# Altium integrated library Semtech-SC4541.IntLib: 1 symbol
Pins are listed as number, name and electrical type; pins without a type are passive.

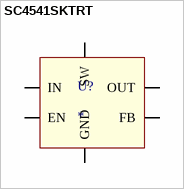
[diagram p0: symbol SC4541SKTRT]

## SC4541SKTRT
designator U?
IC LED DRIVER RGLTR DIM SOT23-6
footprint SOT23-6 (SOT23, 6-Leads, Body 2.95x2.80mm, Pitch 0.95mm, IPC High Density)
pins: 1 SW, 2 GND, 3 IN, 4 EN, 5 FB, 6 OUT